# Altium footprint library EC11.PcbLib: 1 footprints
Each footprint in its own frame and in the unit in brackets; x right, y up, seen from the top. Pads: shape width x height; smd on the part's side, far side on the other; paste and mask are expansions set on the pad; w line width, h text height; cw(c..) or ccw(c..) is an arc to the next point about the centre after c.
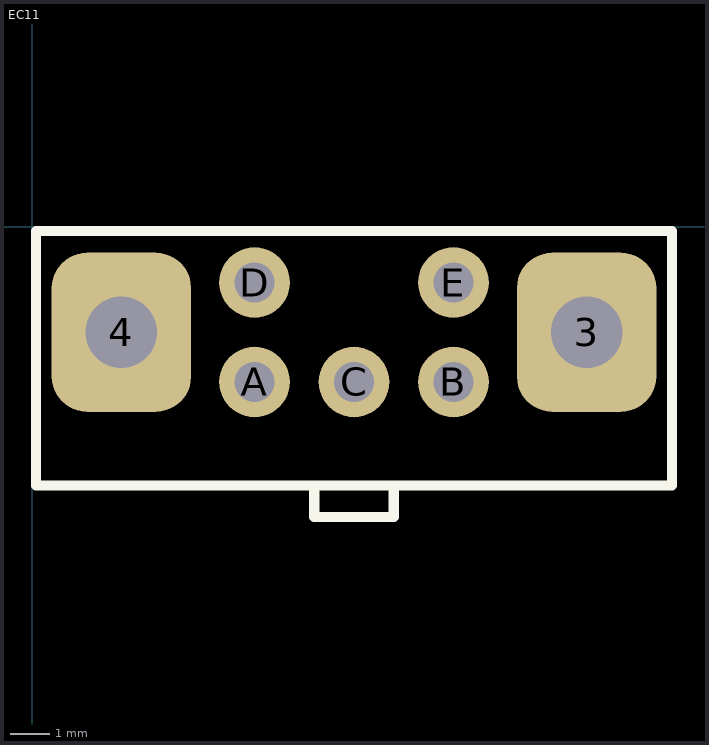
[diagram p0: the footprint, top view; thin cyan lines are the x and y axes]

## EC11 [mil]
pads (7):
  rrect50% 137.8x157.48 hole 70.87 square: 3(548.74,-104.21) 4(88.11,-104.21)
  round 70 hole 39.37: A(220,-153.43) B(416.85,-153.43) C(318.43,-153.43) D(220,-55) E(416.85,-55)
Top Overlay:
  lines w10: 279.06,-255.79 279.06,-287.28 318.43,-287.28 357.8,-287.28 357.8,-255.79 ; 3.46,-255.79 633.39,-255.79 633.39,-3.82 3.46,-3.82 3.46,-255.79